# EAGLE library part W3150A+ (library WIZnet)
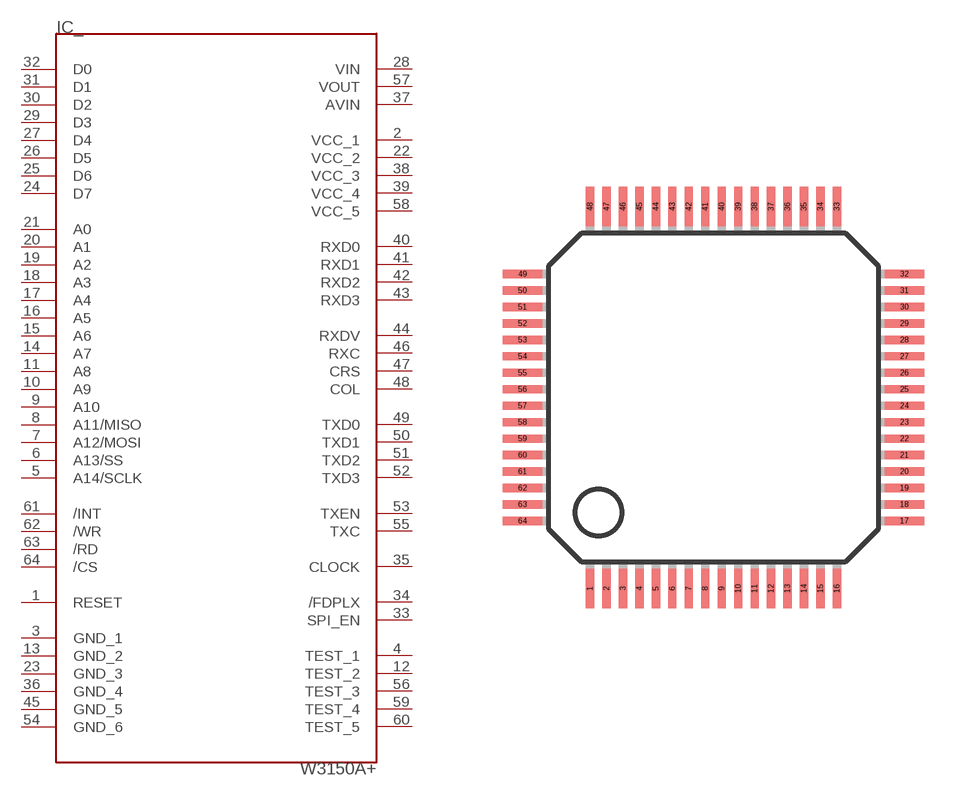
[diagram p8: symbol with the pads of LQFP_64; footprint LQFP_64]

Designator prefix IC_

## W3150A+  [LQFP_64]
1  RESET  in
2  VCC_1  pwr
3  GND_1  pwr
4  TEST_1  in
5  A14/SCLK  in
6  A13/SS  in
7  A12/MOSI  in
8  A11/MISO  in
9  A10  in
10  A9  in
11  A8  in
12  TEST_2  in
13  GND_2  pwr
14  A7  in
15  A6  in
16  A5  in
17  A4  in
18  A3  in
19  A2  in
20  A1  in
21  A0  in
22  VCC_2  pwr
23  GND_3  pwr
24  D7
25  D6
26  D5
27  D4
28  VIN  pwr
29  D3
30  D2
31  D1
32  D0
33  SPI_EN  out
34  /FDPLX  in
35  CLOCK  in
36  GND_4  pwr
37  AVIN  pwr
38  VCC_3  pwr
39  VCC_4  pwr
40  RXD0  in
41  RXD1  in
42  RXD2  in
43  RXD3  in
44  RXDV  in
45  GND_5  pwr
46  RXC  in
47  CRS  in
48  COL  in
49  TXD0  out
50  TXD1  out
51  TXD2  out
52  TXD3  out
53  TXEN  out
54  GND_6  pwr
55  TXC  in
56  TEST_3  in
57  VOUT  pwr
58  VCC_5  pwr
59  TEST_4  in
60  TEST_5  in
61  /INT  out
62  /WR  in
63  /RD  in
64  /CS  in

## Footprint LQFP_64 (pad centres in mm)
smd 0.25 x 1.2: 1 -3.75,-5.8; 2 -3.25,-5.8; 3 -2.75,-5.8; 4 -2.25,-5.8; 5 -1.75,-5.8; 6 -1.25,-5.8; 7 -0.75,-5.8; 8 -0.25,-5.8; 9 0.25,-5.8; 10 0.75,-5.8; 11 1.25,-5.8; 12 1.75,-5.8; 13 2.25,-5.8; 14 2.75,-5.8; 15 3.25,-5.8; 16 3.75,-5.8; 33 3.75,5.8; 34 3.25,5.8; 35 2.75,5.8; 36 2.25,5.8; 37 1.75,5.8; 38 1.25,5.8; 39 0.75,5.8; 40 0.25,5.8; 41 -0.25,5.8; 42 -0.75,5.8; 43 -1.25,5.8; 44 -1.75,5.8; 45 -2.25,5.8; 46 -2.75,5.8; 47 -3.25,5.8; 48 -3.75,5.8
smd 1.2 x 0.25: 17 5.8,-3.75; 18 5.8,-3.25; 19 5.8,-2.75; 20 5.8,-2.25; 21 5.8,-1.75; 22 5.8,-1.25; 23 5.8,-0.75; 24 5.8,-0.25; 25 5.8,0.25; 26 5.8,0.75; 27 5.8,1.25; 28 5.8,1.75; 29 5.8,2.25; 30 5.8,2.75; 31 5.8,3.25; 32 5.8,3.75; 49 -5.8,3.75; 50 -5.8,3.25; 51 -5.8,2.75; 52 -5.8,2.25; 53 -5.8,1.75; 54 -5.8,1.25; 55 -5.8,0.75; 56 -5.8,0.25; 57 -5.8,-0.25; 58 -5.8,-0.75; 59 -5.8,-1.25; 60 -5.8,-1.75; 61 -5.8,-2.25; 62 -5.8,-2.75; 63 -5.8,-3.25; 64 -5.8,-3.75